# Altium footprint library 1150T ANTENNA.PcbLib: 1 footprints
Each footprint in its own frame and in the unit in brackets; x right, y up, seen from the top. Pads: shape width x height; smd on the part's side, far side on the other; paste and mask are expansions set on the pad; w line width, h text height; cw(c..) or ccw(c..) is an arc to the next point about the centre after c.
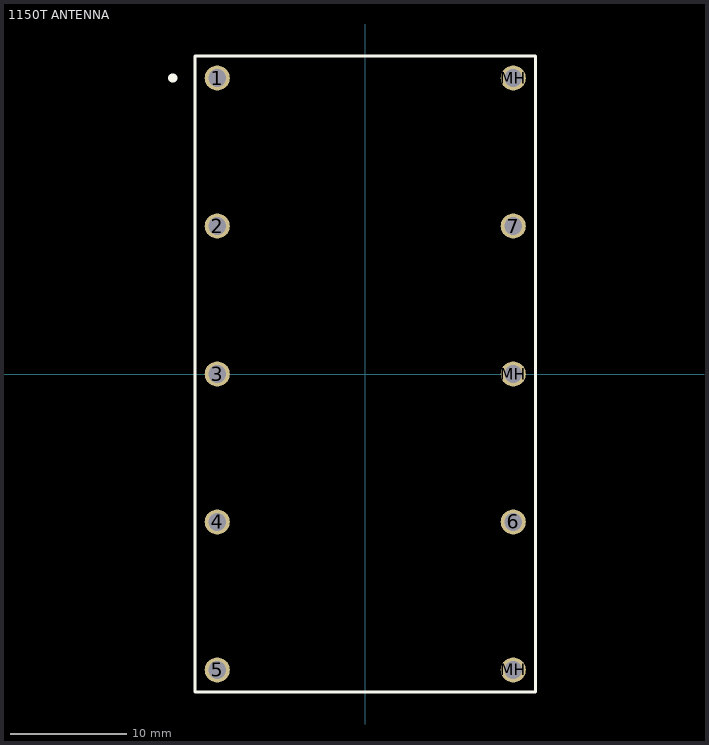
[diagram p0: the footprint, top view; thin cyan lines are the x and y axes]

## 1150T ANTENNA [mil]
pads (10):
  round 85 hole 60: 1(-500,1000) 2(-500,500) 3(-500,0) 4(-500,-500) 5(-500,-1000) 6(500,-500) 7(500,500) MH(500,-1000) MH(500,0) MH(500,1000)
Top Overlay:
  lines w10: -575,-1075 575,-1075 575,1075 -575,1075 -575,-1075
  lines w30: -651,1000 -650,1000